# EAGLE library part ADXL313 (library SparkFun-Sensors)
Analog Devices ADXL313 3-Axis SPI/I2C 0.5/1/2/4g Ultra Low Power Accelerometer The ADXL313 is a small, thin, low power, 3-axis accelerometer with high resolution (13-bit) measurement up to ±4 g. Digital output data is formatted as 16-bit twos complement and is accessible through either a serial port interface (SPI) (3-wire or 4-wire) or I2C digital interface. Datasheet <https://www.analog.com/media/en/technical-documentation/data-sheets/ADXL313.pdf> SparkFun Products SparkFun Triple Axis Accelerometer Breakout - ADXL313 (QWIIC) <https://www.sparkfun.com/products/9836> (SEN-17241)
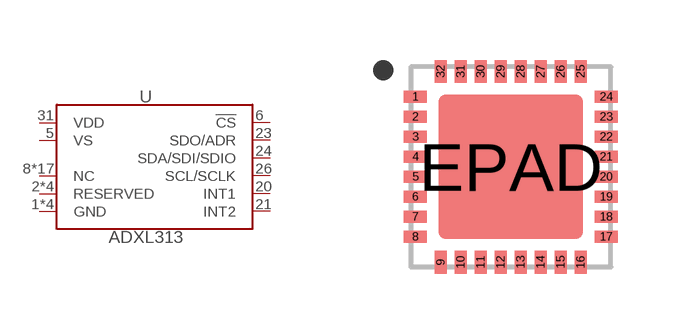
[diagram p4: symbol with the pads of LFCSP; footprint LFCSP]

Designator prefix U

## ADXL313 (PROD_ID: IC-15318)  [LFCSP]
1  GND
2  RESERVED  nc
3  GND
4  GND
5  VS
6  !CS
7  RESERVED  nc
8  NC  nc
9  NC  nc
10  NC  nc
11  NC  nc
12  NC  nc
13  NC  nc
14  NC  nc
15  NC  nc
16  NC  nc
17  NC  nc
18  NC  nc
19  NC  nc
20  INT1
21  INT2
22  RESERVED  nc
23  SDO/ADR
24  SDA/SDI/SDIO
25  NC  nc
26  SCL/SCLK
27  NC  nc
28  NC  nc
29  NC  nc
30  NC  nc
31  VDD
32  RESERVED  nc
EPAD  GND

## Footprint LFCSP (pad centres in mm)
Small and thin: 5 mm × 5 mm × 1.45 mm LFCSP package ADXL313 Datasheet <https://www.analog.com/media/en/technical-documentation/data-sheets/ADXL313.pdf> Specifications: Pin Count: 32 Area: 5 x 5 x 1.45 mm Pitch: 0.5 mm Devices Using: ADXL313
smd 0.57 x 0.3: 1 -2.385,1.75; 2 -2.385,1.25; 3 -2.385,0.75; 4 -2.385,0.25; 5 -2.385,-0.25; 6 -2.385,-0.75; 7 -2.385,-1.25; 8 -2.385,-1.75; 17 2.385,-1.75; 18 2.385,-1.25; 19 2.385,-0.75; 20 2.385,-0.25; 21 2.385,0.25; 22 2.385,0.75; 23 2.385,1.25; 24 2.385,1.75
smd 0.3 x 0.57: 9 -1.75,-2.385; 10 -1.25,-2.385; 11 -0.75,-2.385; 12 -0.25,-2.385; 13 0.25,-2.385; 14 0.75,-2.385; 15 1.25,-2.385; 16 1.75,-2.385; 25 1.75,2.385; 26 1.25,2.385; 27 0.75,2.385; 28 0.25,2.385; 29 -0.25,2.385; 30 -0.75,2.385; 31 -1.25,2.385; 32 -1.75,2.385
smd 3.6 x 3.6: EPAD 0,0